# Altium integrated library Motor_control.IntLib: 18 symbols
Pins are listed as number, name and electrical type; pins without a type are passive.

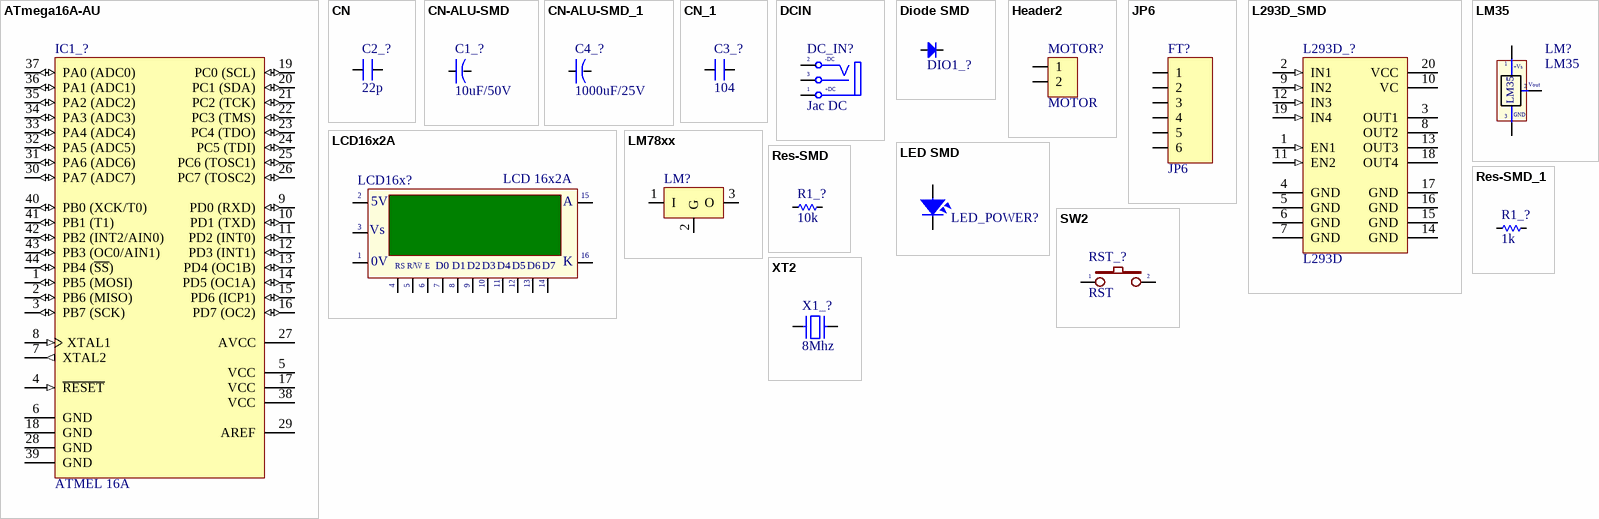
[diagram p0: symbols ATmega16A-AU to XT2]

## ATmega16A-AU
designator IC1_?, comment ATMEL 16A
8-bit AVR Microcontroller, 16KB Flash, 512 Bytes EEPROM, 1KB SRAM, 44-pin TQFP, Industrial Grade (-40°C to 85°C); Value: Atmega 16L
footprint TQFP44 (TQFP, 44-Leads, Body 12X12mm, Pitch 0.80mm, IPC High Density)
pins: 1 PB5 (MOSI) (io), 2 PB6 (MISO) (io), 3 PB7 (SCK) (io), 4 ~{RESET} (in), 5 VCC (power), 6 GND (power), 7 XTAL2 (out), 8 XTAL1 (in), 9 PD0 (RXD) (io), 10 PD1 (TXD) (io), 11 PD2 (INT0) (io), 12 PD3 (INT1) (io), 13 PD4 (OC1B) (io), 14 PD5 (OC1A) (io), 15 PD6 (ICP1) (io), 16 PD7 (OC2) (io), 17 VCC (power), 18 GND (power), 19 PC0 (SCL) (io), 20 PC1 (SDA) (io), 21 PC2 (TCK) (io), 22 PC3 (TMS) (io), 23 PC4 (TDO) (io), 24 PC5 (TDI) (io), 25 PC6 (TOSC1) (io), 26 PC7 (TOSC2) (io), 27 AVCC (power), 28 GND (power), 29 AREF (power), 30 PA7 (ADC7) (io), 31 PA6 (ADC6) (io), 32 PA5 (ADC5) (io), 33 PA4 (ADC4) (io), 34 PA3 (ADC3) (io), 35 PA2 (ADC2) (io), 36 PA1 (ADC1) (io), 37 PA0 (ADC0) (io), 38 VCC (power), 39 GND (power), 40 PB0 (XCK/T0) (io), 41 PB1 (T1) (io), 42 PB2 (INT2/AIN0) (io), 43 PB3 (OC0/AIN1) (io), 44 PB4 (~{SS}) (io)

## CN
designator C2_?, comment 22p
Value: 33pF
footprint CN1.5
footprint CN1
footprint CN2.5 (Tu pin to pin 250mil)
footprint CN3 (Cap np W 0.3)
footprint CN-SMD-0603
footprint CN-SMD-0805
footprint CN-SMD-0402
footprint CN-SMD-1206
footprint CN-SMD-2520 (TOKO INDUCTOR DFE252012 SERIES)
footprint CN-SMD-3225 (Chip Capacitor, Body 3.2x2.5mm, IPC Medium Density)
footprint CN2-T
footprint CN2-G
footprint CN0.8
footprint CN1-TA
footprint CN2-B
footprint CN2-LT
footprint CN2-O
footprint CN2-R
footprint CN2.5-BR (Tu pin to pin 250mil)
footprint CN2.5-R (Tu pin to pin 250mil)
footprint CN2.5-RV (Tu pin to pin 250mil)
footprint CN3.5 (Cap np W 0.3)
footprint CN4
footprint CN7 (Cap np W 0.3)
footprint CN3-B (Cap np W 0.3)
footprint CN7-B (Cap np W 0.3)
footprint CN7-N (Cap np W 0.3)
footprint CN7-Y (Cap np W 0.3)
footprint CN15 (Cap np W 0.3)
pins: 1, 2

## CN-ALU-SMD
designator C1_?, comment 10uF/50V
Polarized Capacitor (Axial); Published: 8-Jun-2000; LatestRevisionDate: 17-Jul-2002; LatestRevisionNote: Re-released for DXP Platform.; PackageReference: POLAR0.8; Publisher: Altium Limited
footprint CAP-ALU-SMD-4.5x5x1.4
footprint CAP-ALU-SMD-5x5.5x1.4
footprint CAP-ALU-SMD-5.5x5.5
footprint CAP-ALU-SMD-6.3x7.7x2.2
footprint CAP-ALU-SMD-C
footprint CAP-ALU-SMD-D
footprint CAP-ALU-SMD-F
footprint CAP-ALU-SMD-G
footprint CAP-ALU-SMD-H
footprint CAP-ALU-SMD-J
footprint CAP-ALU-SMD-K
pins: 1, 2
1 alternate drawing of the same symbol

## CN-ALU-SMD_1
designator C4_?, comment 1000uF/25V
Polarized Capacitor (Axial); Published: 8-Jun-2000; LatestRevisionDate: 17-Jul-2002; LatestRevisionNote: Re-released for DXP Platform.; PackageReference: POLAR0.8; Publisher: Altium Limited
footprint CAP-ALU-SMD-4.5x5x1.4
footprint CAP-ALU-SMD-5x5.5x1.4
footprint CAP-ALU-SMD-5.5x5.5
footprint CAP-ALU-SMD-6.3x7.7x2.2
footprint CAP-ALU-SMD-C
footprint CAP-ALU-SMD-D
footprint CAP-ALU-SMD-F
footprint CAP-ALU-SMD-G
footprint CAP-ALU-SMD-H
footprint CAP-ALU-SMD-J
footprint CAP-ALU-SMD-K
pins: 1, 2
1 alternate drawing of the same symbol

## CN_1
designator C3_?, comment 104
Value: 33pF
footprint CN1.5
footprint CN1
footprint CN2.5 (Tu pin to pin 250mil)
footprint CN3 (Cap np W 0.3)
footprint CN-SMD-0603
footprint CN-SMD-0805
footprint CN-SMD-0402
footprint CN-SMD-1206
footprint CN-SMD-2520 (TOKO INDUCTOR DFE252012 SERIES)
footprint CN-SMD-3225 (Chip Capacitor, Body 3.2x2.5mm, IPC Medium Density)
footprint CN2-T
footprint CN2-G
footprint CN0.8
footprint CN1-TA
footprint CN2-B
footprint CN2-LT
footprint CN2-O
footprint CN2-R
footprint CN2.5-BR (Tu pin to pin 250mil)
footprint CN2.5-R (Tu pin to pin 250mil)
footprint CN2.5-RV (Tu pin to pin 250mil)
footprint CN3.5 (Cap np W 0.3)
footprint CN4
footprint CN7 (Cap np W 0.3)
footprint CN3-B (Cap np W 0.3)
footprint CN7-B (Cap np W 0.3)
footprint CN7-N (Cap np W 0.3)
footprint CN7-Y (Cap np W 0.3)
footprint CN15 (Cap np W 0.3)
pins: 1, 2

## DCIN
designator DC_IN?, comment Jac DC
Jac DC input; Value: Jac DC
footprint DC0 (Jac DC input)
footprint DC1 (WR-DC_DC Power Jack_Right Angled_THT Center Pin ?0.65_Plug ID ?0.75_Plug OD ?2.35_with Peg)
footprint DC2 (WR-DC_DC Power Jack_Vertical_THT WR-DC_DC Power Jack_Vertical_THT)
footprint DC3 (WR-DC_DC Power Jack_Vertical_THT Center Pin ?2.5_Plug ID ?2.55_Plug OD ?5.5)
footprint DC4 (WR-DC_DC Power Jack_Right Angled_THT Center Pin ?1.0_Plug ID ?1.05_Plug OD ?3.5_with Peg)
footprint DC5 (WR-DC_DC Power Jack_Right Angled_THT Center Pin ?1.3_Plug ID ?1.35_Plug OD ?3.5_with Peg)
pins: 1 T "Tip", 2 TN "Tip Normal (Break Contact)", 3 S (power) "Sleeve (Ground)"
text: -DC; +DC

## Diode SMD
designator DIO1_?  (value not drawn)
Default Diode; Code - JEDEC: DO-214-AB; Value: 1N5007; Published: 8-Jun-2000; Revision: July-2002: Re-released for DXP Platform.; Publisher: Altium Limited
footprint DIO-SMD-106
footprint DIO-SMD-123
footprint DIO-SMD-A
footprint DIO-SMD-B (Magnetic-Core Inductor with Winding Polarity Marking; 2 Leads)
footprint DIO-SMD-216AA (DO216AA ST-MITE)
footprint DIO-SMD-222AA (DO216AA ST-MITE)
pins: 1 A, 2 K

## Header2
designator MOTOR?, comment MOTOR
Header IDC, 2 x 1 Pin Vertical 2.54mm Pitch (Non-Boxed, Male); Manufacturer: W¨¹rth Elektronik eiSos GmbH; partNo: 613002143121; ComponentLink1 Description: Manufacturer; ComponentLink2 Description: Datasheet; NoPins: 02; Created Date: 29 March 2013; ComponentLink1URL: http://www.we-online.com; ComponentLink2URL: http://katalog.we-online.de/em/datasheet/6130xx143121.pdf; Created by: Karrer Zheng
footprint HDR2 (Connector; Header; 2 Position)
footprint Header2 (CON2)
pins: 1, 2

## JP6
designator FT?
WR-PHD 2.54 mm Angled Socket Header; Manufacturer: W¨¹rth Elektronik eiSos GmbH; partNo: 613006143121; ComponentLink1 Description: Manufacturer; ComponentLink2 Description: Datasheet; NoPins: 06; Created Date: 29 March 2013; ComponentLink1URL: http://www.we-online.com; ComponentLink2URL: http://katalog.we-online.de/em/datasheet/6130xx143121.pdf; Created by: Karrer Zheng
footprint JP6-C1T (6 row, straight, gold plating)
footprint JP6-D1C (6 pins, 1 row, right angled, gold plating)
footprint JP6-C1C (06p 1 row Right angle)
footprint JP6-D1T (6 pins, 1 row, straight, gold plating)
pins: 1, 2, 3, 4, 5, 6

## L293D_SMD
designator L293D_?, comment L293D
Push-Pull Four Channel Driver With Diode; Published: 8-Jun-2000; LatestRevisionDate: 06-Jun-2005; LatestRevisionNote: Stylized 3D Model Added.; DatasheetVersion: Jun-1996; PackageVersion: Apr-1996; PackageReference: DIP16; Publisher: Altium Limited; PackageDescription: DIP; 16 Leads; Row Spacing 7.62 mm; Pitch 2.54 mm; ComponentLink1Description: Manufacturer Link; ComponentLink1URL: http://www.st.com/; ComponentLink2Description: Datasheet; ComponentLink2URL: http://www.st.com/stonline/products/literature/ds/1330/l293d.pdf
footprint SO20 (SOIC, 20-Leads, Body 12.60x7.50mm, Pitch 1.27mm, IPC Medium Density)
pins: 1 EN1 (in), 2 IN1 (in), 3 OUT1 (hiz), 4 GND (power), 5 GND (power), 6 GND (power), 7 GND (power), 8 OUT2 (hiz), 9 IN2 (in), 10 VC (power), 11 EN2 (in), 12 IN3 (in), 13 OUT3 (hiz), 14 GND (power), 15 GND (power), 16 GND (power), 17 GND (power), 18 OUT4 (hiz), 19 IN4 (in), 20 VCC (power)

## LCD16x2A
designator LCD16x?, comment LCD 16x2A
LCD dipslay 16 char, 2 line; Value: LCD16x2A
footprint JP16-C1T (16 row, straight, gold plating)
footprint LCD16X2N (LCD dipslay 16x2, 16 pin)
footprint LCD16X2 (LCD dipslay 16x2, 16 pin)
pins: 1 GND, 2 VDD, 3 VEE, 4 RS, 5 R/~{W}, 6 ~{EN}, 7 D0, 8 D1, 9 D2, 10 D3, 11 D4, 12 D5, 13 D6, 14 D7, 15 A, 16 K
text: 5V; Vs; |; 0V; R/W; E

## LED SMD
designator LED_POWER?, comment LED  (value not drawn)
Value: LED 3 - 5 ly 2 Colour
footprint LED 3512
footprint LED-0805-Blue
footprint LED-0805-Green
footprint LED-0805-Orange
footprint LED-1206-Blue (Compoment SMD 120x60mil)
footprint LED-0805-Yellow
footprint LED-0805-Red
footprint LED-1206-Green
footprint LED-1206-Orange
footprint LED-1206-Red
footprint LED-1206-Yellow
footprint LED-BLUE 0805
footprint LED-GREEN-0805
footprint LED-ORANGE-0805
footprint LED-RED-0805
footprint LED-WHITE-0805
footprint LED-YELLOW-0805
pins: 1, 2

## LM35
designator LM?
Teminal; Value: LM35
footprint TO92-123 (TO-92)
footprint JP3-C1T (3 row, straight, gold plating)
pins: 1 +Vs, 2 Vout, 3 -
text: GND

## LM78xx
designator LM?  (value not drawn)
Positive Voltage Regulator; Note: Tab is connected to pin 3 (GND).; Published: 24-Aug-2001; LatestRevisionDate: 17-Jul-2002; LatestRevisionNote: Re-released for DXP Platform.; DatasheetVersion: Apr-1994; PackageVersion: Jul-1998; PackageReference: ISOWATT220AB; Publisher: Altium Limited; PackageDescription: TO, Thru-Hole, Vertical, Heatsink Mounted; 3 In-Line Leads; Pitch 2.54 mm; Pin sequence 1, 3, 2; ComponentLink1Description: Manufacturer Link; ComponentLink1URL: http://www.st.com/; ComponentLink2Description: Datasheet; ComponentLink2URL: http://www.st.com/stonline/products/literature/ds/2146/l78m05c.pdf
footprint TO220-123 (TO-220 - 1-2-3)
footprint TO220H2 (TO-220 - 1-2-3)
footprint TO220H1 (TO-220 - 1-2-3)
footprint TO220NH (TO-220 - 1-2-3)
footprint TO252-123
footprint SOT223-321
footprint TO92-321 (TO-92)
footprint SOT89-321 (SOT89, 3-Leads, Body 4.55x2.55mm, Pitch 1.50mm, Lead Span 4.1mm, IPC Medium Density)
pins: 1 I (power), 2 G (power), 3 O (power)

## Res-SMD
designator R1_?, comment 10k
Resistor; Manufacturer: Generic Components; Class: Passive; Published: 08/06/2000; Publisher: Altium Hobart Technology Centre
footprint RES-SMD-0101
footprint RES-SMD-0201
footprint RES-SMD-0603
footprint RES-SMD-0805
footprint RES-SMD-1206
footprint RES-SMD-1210 (Chip Capacitor, Body 3.2x2.5mm, IPC Medium Density)
footprint RES-SMD-1812 (Chip Capacitor, Body 3.2x2.5mm, IPC Medium Density)
footprint RES-SMD-2010 (Chip Capacitor, Body 3.2x2.5mm, IPC Medium Density)
footprint RES-SMD-2512 (Chip Capacitor, Body 3.2x2.5mm, IPC Medium Density)
footprint RES-SMD-0402
pins: 1, 2

## Res-SMD_1
designator R1_?, comment 1k
Resistor; Manufacturer: Generic Components; Class: Passive; Published: 08/06/2000; Publisher: Altium Hobart Technology Centre
footprint RES-SMD-0101
footprint RES-SMD-0201
footprint RES-SMD-0603
footprint RES-SMD-0805
footprint RES-SMD-1206
footprint RES-SMD-1210 (Chip Capacitor, Body 3.2x2.5mm, IPC Medium Density)
footprint RES-SMD-1812 (Chip Capacitor, Body 3.2x2.5mm, IPC Medium Density)
footprint RES-SMD-2010 (Chip Capacitor, Body 3.2x2.5mm, IPC Medium Density)
footprint RES-SMD-2512 (Chip Capacitor, Body 3.2x2.5mm, IPC Medium Density)
footprint RES-SMD-0402
pins: 1, 2

## SW2
designator RST_?, comment RST
Switch button 2 pin; Value: SW chip 2 pin
footprint SW1-SMD
footprint SW-DIP1
footprint SW-DIP1-1 (01p, 2.54mm Pitch, Horizontal, Box Type, THT, flat Actuator, red, without Tape, Tube)
footprint SW1-DIP
pins: 1, 2

## XT2
designator X1_?, comment 8Mhz
Crystal, 32.768 KHz, -40 to 85 degC, 3.2 x 1.5 x 0.9 mm SMD; Value: 4Mhz
footprint XT2 (Footpin for Crystal 2 pin)
footprint XT2N (Crystal 2pin, high 200 mil)
footprint XT2-L (Footpin for Crystal 2 pin)
footprint XT32k
footprint XT2-SMD
footprint XTAL-RU49/4
footprint XT2-32.768KHz-2_V (Hand Drawn, 2-Leads, Body 3.2x1.5mm, Pitch 2.5mm)
pins: 1, 2